# Altium footprint library TSOP36436.PcbLib: 1 footprints
Each footprint in its own frame and in the unit in brackets; x right, y up, seen from the top. Pads: shape width x height; smd on the part's side, far side on the other; paste and mask are expansions set on the pad; w line width, h text height; cw(c..) or ccw(c..) is an arc to the next point about the centre after c.
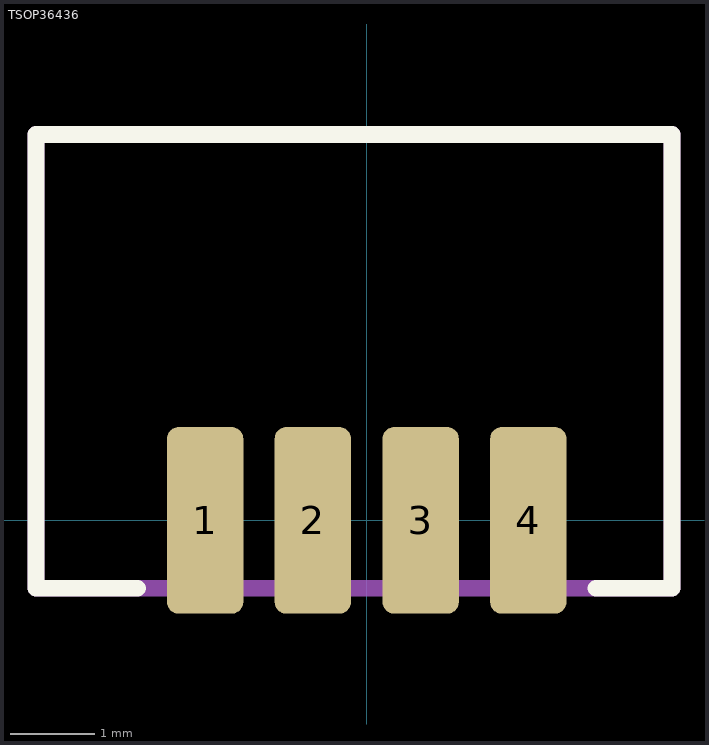
[diagram p0: the footprint, top view; thin cyan lines are the x and y axes]

## TSOP36436 [mm] "IR Receiver Modules for Remote Control Systems"
pads (4):
  rrect30% 0.9x2.2 smd: 1(-1.905,0) 2(-0.635,0) 3(0.635,0) 4(1.905,0)
Top Overlay:
  lines w0.2: -2.7,-0.8 -3.9,-0.8 -3.9,4.55 3.6,4.55 3.6,-0.8 2.7,-0.8
Top 3D Body:
  lines w0.2: -3.9,-0.8 -3.9,4.55 3.6,4.55 3.6,-0.8 -3.9,-0.8
3D body "82826SMD.STP": height 4, standoff 0, extent -3.9,-0.791 3.6,4.55